# EAGLE library part FONA_808_BREAKOUT (library TepmachchaMk2)
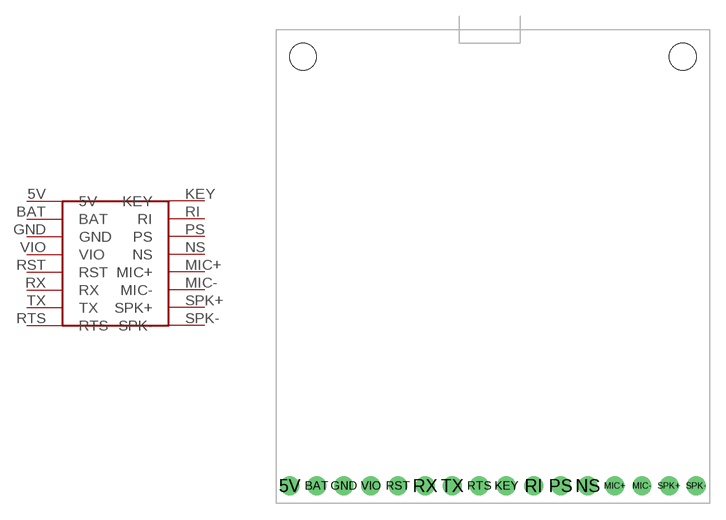
[diagram p2: symbol with the pads of FONA_808_BREAKOUT; footprint FONA_808_BREAKOUT]

Designator prefix -

## FONA_808_BREAKOUTONE  [FONA_808_BREAKOUT]
5V  5V  pwr
BAT  BAT  pwr
GND  GND  pwr
KEY  KEY
MIC+  MIC+
MIC-  MIC-
NS  NS
PS  PS
RI  RI
RST  RST
RTS  RTS
RX  RX
SPK+  SPK+
SPK-  SPK-
TX  TX
VIO  VIO

## Footprint FONA_808_BREAKOUT (pad centres in mm)
drill 0.9 pad 1.778: 5V -19.05,-20.574; BAT -16.51,-20.574; GND -13.97,-20.574; KEY 1.27,-20.574; MIC+ 11.43,-20.574; MIC- 13.97,-20.574; NS 8.89,-20.574; PS 6.35,-20.574; RI 3.81,-20.574; RST -8.89,-20.574; RTS -1.27,-20.574; RX -6.35,-20.574; SPK+ 16.51,-20.574; SPK- 19.05,-20.574; TX -3.81,-20.574; VIO -11.43,-20.574
hole 2.5 at -17.78,19.685
hole 2.5 at 17.78,19.685